# Altium footprint library Footprints.PcbLib: 3 footprints
Each footprint in its own frame and in the unit in brackets; x right, y up, seen from the top. Pads: shape width x height; smd on the part's side, far side on the other; paste and mask are expansions set on the pad; w line width, h text height; cw(c..) or ccw(c..) is an arc to the next point about the centre after c.
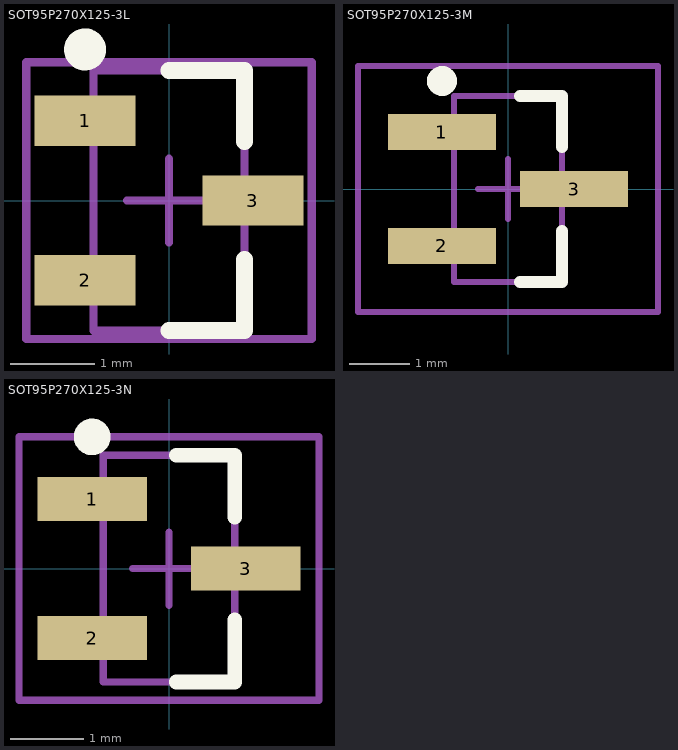
[diagram p0: the footprints below, top view; thin cyan lines are the x and y axes]

## SOT95P270X125-3L [mm] "SOT23, 3-Leads, Body 3.1x2.8mm (max), Pitch 0.95mm, IPC High Density"
height 1.25
pads (3):
  rect 1.2x0.6 smd: 1(-1,0.95) 2(-1,-0.95) 3(1,0)
Top Overlay:
  circle w0.25: c-1,1.8 r0.125
  lines w0.2: 0,-1.55 0.9,-1.55 0.9,-0.7 ; 0,1.55 0.9,1.55 0.9,0.7
Mechanical 13:
  lines w0.1: -0.9,-1.55 0.9,-1.55 0.9,1.55 -0.9,1.55 -0.9,-1.55
Mechanical 15:
  lines w0.1: -0.5,0 0.5,0 ; 0,-0.5 0,0.5 ; -1.7,-1.65 1.7,-1.65 1.7,1.65 -1.7,1.65 -1.7,-1.65
3D body: height 1.25, standoff 0.01, extent -0.9,-1.55 0.9,1.55

## SOT95P270X125-3M [mm] "SOT23, 3-Leads, Body 3.1x2.8mm (max), Pitch 0.95mm, IPC Low Density"
height 1.25
pads (3):
  rect 1.8x0.6 smd: 1(-1.1,0.95) 2(-1.1,-0.95) 3(1.1,0)
Top Overlay:
  circle w0.25: c-1.1,1.8 r0.125
  lines w0.2: 0.2,-1.55 0.9,-1.55 0.9,-0.7 ; 0.2,1.55 0.9,1.55 0.9,0.7
Mechanical 13:
  lines w0.1: -0.9,-1.55 0.9,-1.55 0.9,1.55 -0.9,1.55 -0.9,-1.55
Mechanical 15:
  lines w0.1: -0.5,0 0.5,0 ; 0,-0.5 0,0.5 ; -2.5,-2.05 2.5,-2.05 2.5,2.05 -2.5,2.05 -2.5,-2.05
3D body: height 1.25, standoff 0.01, extent -0.9,-1.55 0.9,1.55

## SOT95P270X125-3N [mm] "SOT23, 3-Leads, Body 3.1x2.8mm (max), Pitch 0.95mm, IPC Medium Density"
height 1.25
pads (3):
  rect 1.5x0.6 smd: 1(-1.05,0.95) 2(-1.05,-0.95) 3(1.05,0)
Top Overlay:
  circle w0.25: c-1.05,1.8 r0.125
  lines w0.2: 0.1,-1.55 0.9,-1.55 0.9,-0.7 ; 0.1,1.55 0.9,1.55 0.9,0.7
Mechanical 13:
  lines w0.1: -0.9,-1.55 0.9,-1.55 0.9,1.55 -0.9,1.55 -0.9,-1.55
Mechanical 15:
  lines w0.1: -0.5,0 0.5,0 ; 0,-0.5 0,0.5 ; -2.05,-1.8 2.05,-1.8 2.05,1.8 -2.05,1.8 -2.05,-1.8
3D body: height 1.25, standoff 0.01, extent -0.9,-1.55 0.9,1.55